# Altium schematic symbol library 2026-09-20_13-56-15.SchLib: 1 symbol
Pins are listed as number, name and electrical type; pins without a type are passive.

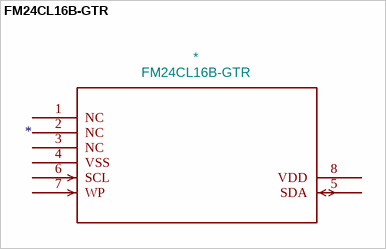
[diagram p0: symbol FM24CL16B-GTR]

## FM24CL16B-GTR
designator *  value FM24CL16B-GTR
ki_fp_filters: SOIC-8 SOIC-8-M SOIC-8-L; Footprint: SOIC-8; Supplier: FM24CL16B-GTR; ki_keywords: FM24CL16B-GTR
footprint SOIC-8
pins: 1 NC, 2 NC, 3 NC, 4 VSS, 5 SDA, 6 SCL, 7 WP, 8 VDD